# Altium integrated library Xilinx Aerospace and Defense.IntLib: 197 symbols (part 47 of 53)
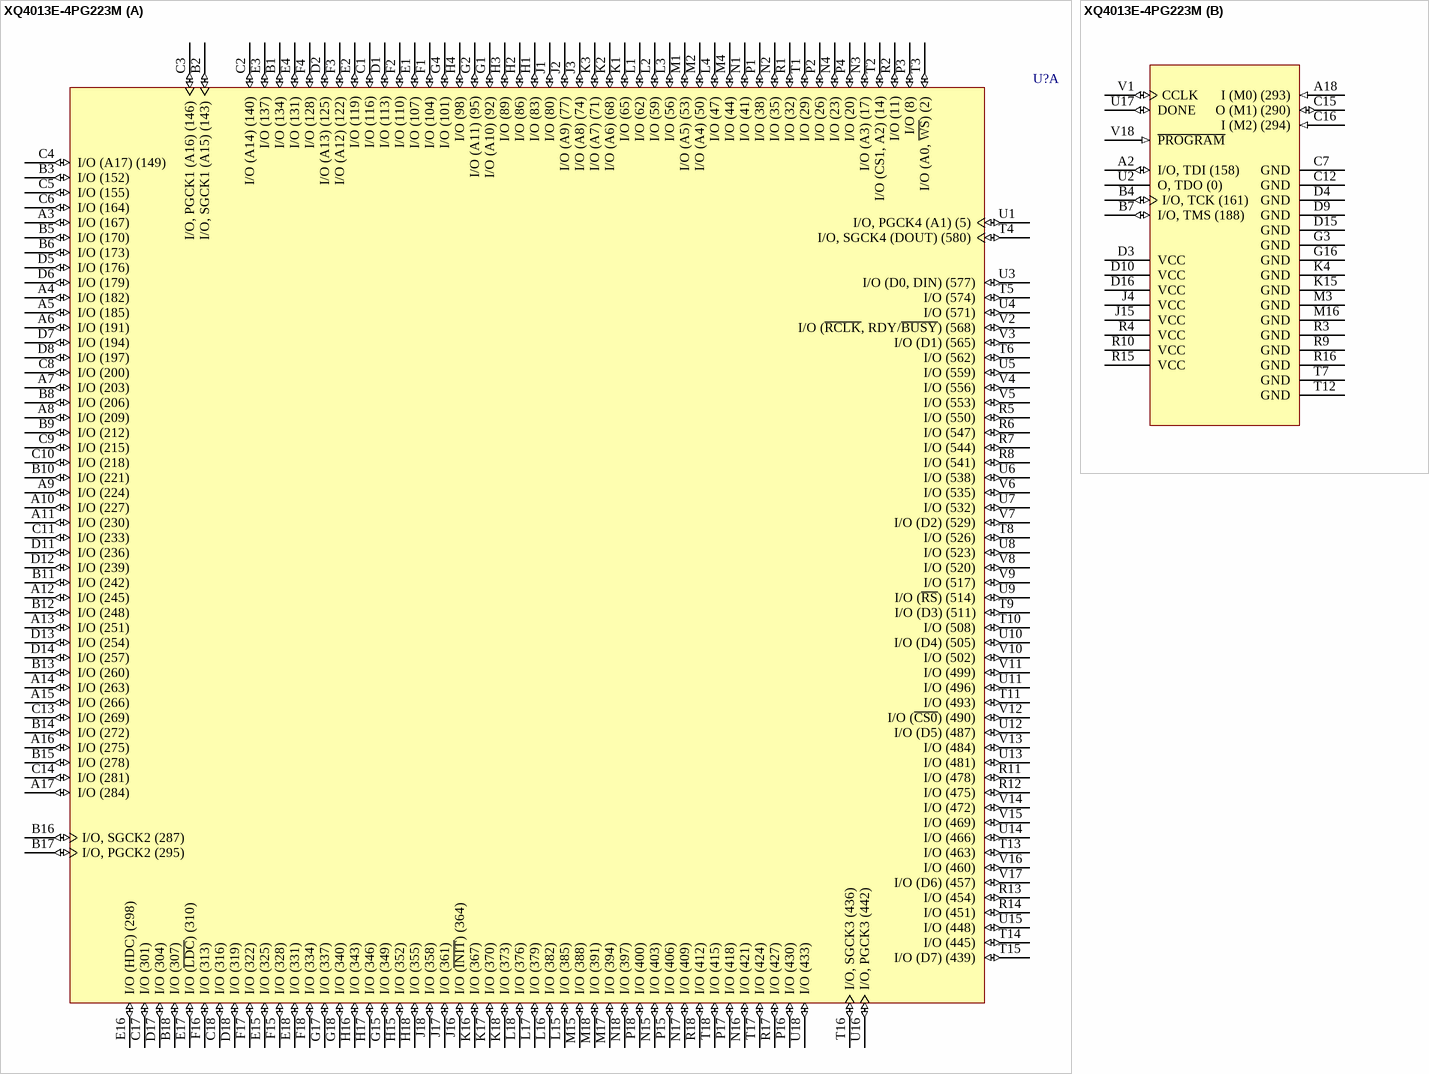
[diagram p453: symbol XQ4013E-4PG223M]

## XQ4013E-4PG223M
designator U?
QPro XQ4013E QML 5V High-Reliability FPGA, 223-Pin Ceramic PGA, Speed Grade 4, Military Ceramic Temperature Grade; DatasheetVersion: ver2.2, Jun-2000; PackageVersion: ver1.0, Jun-2000; PackageReference: PG223; PackageDescription: 223-Pin Ceramic Pin Grid Array (PG223); ComponentLink1Description: Manufacturer URL; ComponentLink1URL: http://www.xilinx.com/; ComponentLink2Description: QPRO XQ4000E/EX Datasheet; ComponentLink2URL: http://www.xilinx.com/support/documentation/data_sheets/ds021.pdf; ComponentLink3Description: PG223 Package Drawing; ComponentLink3URL: http://www.xilinx.com/support/documentation/package_specs/pg223.pdf
footprint PG223 (PGA, 223-Leads, Body 47x47mm, Pitch 2.54mm)
part A pins: A3 I/O (167) (io), A4 I/O (182) (io), A5 I/O (185) (io), A6 I/O (191) (io), A7 I/O (203) (io), A8 I/O (209) (io), A9 I/O (224) (io), A10 I/O (227) (io), A11 I/O (230) (io), A12 I/O (245) (io), A13 I/O (251) (io), A14 I/O (263) (io), A15 I/O (266) (io), A16 I/O (275) (io), A17 I/O (284) (io), B1 I/O (134) (io), B2 I/O, SGCK1 (A15) (143) (io), B3 I/O (152) (io), B5 I/O (170) (io), B6 I/O (173) (io), B8 I/O (206) (io), B9 I/O (212) (io), B10 I/O (221) (io), B11 I/O (242) (io), B12 I/O (248) (io), B13 I/O (260) (io), B14 I/O (272) (io), B15 I/O (278) (io), B16 I/O, SGCK2 (287) (io), B17 I/O, PGCK2 (295) (io), B18 I/O (307) (io), C1 I/O (116) (io), C2 I/O (A14) (140) (io), C3 I/O, PGCK1 (A16) (146) (io), C4 I/O (A17) (149) (io), C5 I/O (155) (io), C6 I/O (164) (io), C8 I/O (200) (io), C9 I/O (215) (io), C10 I/O (218) (io), C11 I/O (233) (io), C13 I/O (269) (io), C14 I/O (281) (io), C17 I/O (301) (io), C18 I/O (316) (io), D1 I/O (113) (io), D2 I/O (A13) (125) (io), D5 I/O (176) (io), D6 I/O (179) (io), D7 I/O (194) (io), D8 I/O (197) (io), D11 I/O (236) (io), D12 I/O (239) (io), D13 I/O (254) (io), D14 I/O (257) (io), D17 I/O (304) (io), D18 I/O (319) (io), E1 I/O (107) (io), E2 I/O (119) (io), E3 I/O (137) (io), E4 I/O (131) (io), E15 I/O (325) (io), E16 I/O (HDC) (298) (io), E17 I/O (~{LDC}) (310) (io), E18 I/O (331) (io), F1 I/O (104) (io), F2 I/O (110) (io), F3 I/O (A12) (122) (io), F4 I/O (128) (io), F15 I/O (328) (io), F16 I/O (313) (io), F17 I/O (322) (io), F18 I/O (334) (io), G1 I/O (A10) (92) (io), G2 I/O (A11) (95) (io), G4 I/O (101) (io), G15 I/O (349) (io), G17 I/O (337) (io), G18 I/O (340) (io), H1 I/O (83) (io), H2 I/O (86) (io), H3 I/O (89) (io), H4 I/O (98) (io), H15 I/O (352) (io), H16 I/O (343) (io), H17 I/O (346) (io), H18 I/O (355) (io), J1 I/O (80) (io), J2 I/O (A9) (77) (io), J3 I/O (A8) (74) (io), J16 I/O (~{INIT}) (364) (io), J17 I/O (361) (io), J18 I/O (358) (io), K1 I/O (65) (io), K2 I/O (A6) (68) (io), K3 I/O (A7) (71) (io), K16 I/O (367) (io), K17 I/O (370) (io), K18 I/O (373) (io), L1 I/O (62) (io), L2 I/O (59) (io), L3 I/O (56) (io), L4 I/O (47) (io), L15 I/O (385) (io), L16 I/O (382) (io), L17 I/O (379) (io), L18 I/O (376) (io), M1 I/O (A5) (53) (io), M2 I/O (A4) (50) (io), M4 I/O (44) (io), M15 I/O (388) (io), M17 I/O (394) (io), M18 I/O (391) (io), N1 I/O (41) (io), N2 I/O (35) (io), N3 I/O (A3) (17) (io), N4 I/O (23) (io), N15 I/O (403) (io), N16 I/O (421) (io), N17 I/O (409) (io), N18 I/O (397) (io), P1 I/O (38) (io), P2 I/O (26) (io), P3 I/O (8) (io), P4 I/O (20) (io), P15 I/O (406) (io), P16 I/O (430) (io), P17 I/O (418) (io), P18 I/O (400) (io), R1 I/O (32) (io), R2 I/O (11) (io), R5 I/O (550) (io), R6 I/O (547) (io), R7 I/O (544) (io), R8 I/O (541) (io), R11 I/O (478) (io), R12 I/O (475) (io), R13 I/O (454) (io), R14 I/O (451) (io), R17 I/O (427) (io), R18 I/O (412) (io), T1 I/O (29) (io), T2 I/O (CS1, A2) (14) (io), T3 I/O (A0, ~{WS}) (2) (io), T4 I/O, SGCK4 (DOUT) (580) (io), T5 I/O (574) (io), T6 I/O (562) (io), T8 I/O (526) (io), T9 I/O (D3) (511) (io), T10 I/O (508) (io), T11 I/O (493) (io), T13 I/O (463) (io), T14 I/O (445) (io), T15 I/O (D7) (439) (io), T16 I/O, SGCK3 (436) (io), T17 I/O (424) (io), T18 I/O (415) (io), U1 I/O, PGCK4 (A1) (5) (io), U3 I/O (D0, DIN) (577) (io), U4 I/O (571) (io), U5 I/O (559) (io), U6 I/O (538) (io), U7 I/O (532) (io), U8 I/O (523) (io), U9 I/O (~{RS}) (514) (io), U10 I/O (D4) (505) (io), U11 I/O (496) (io), U12 I/O (D5) (487) (io), U13 I/O (481) (io), U14 I/O (466) (io), U15 I/O (448) (io), U16 I/O, PGCK3 (442) (io), U18 I/O (433) (io), V2 I/O (~{RCLK}, RDY/~{BUSY}) (568) (io), V3 I/O (D1) (565) (io), V4 I/O (556) (io), V5 I/O (553) (io), V6 I/O (535) (io), V7 I/O (D2) (529) (io), V8 I/O (520) (io), V9 I/O (517) (io), V10 I/O (502) (io), V11 I/O (499) (io), V12 I/O (~{CS0}) (490) (io), V13 I/O (484) (io), V14 I/O (472) (io), V15 I/O (469) (io), V16 I/O (460) (io), V17 I/O (D6) (457) (io)
part B pins: A2 I/O, TDI (158) (io), A18 I (M0) (293) (in), B4 I/O, TCK (161) (io), B7 I/O, TMS (188) (io), C7 GND (power), C12 GND (power), C15 O (M1) (290) (io), C16 I (M2) (294) (in), D3 VCC (power), D4 GND (power), D9 GND (power), D10 VCC (power), D15 GND (power), D16 VCC (power), G3 GND (power), G16 GND (power), J4 VCC (power), J15 VCC (power), K4 GND (power), K15 GND (power), M3 GND (power), M16 GND (power), R3 GND (power), R4 VCC (power), R9 GND (power), R10 VCC (power), R15 VCC (power), R16 GND (power), T7 GND (power), T12 GND (power), U2 O, TDO (0) (hiz), U17 DONE (io), V1 CCLK (io), V18 ~{PROGRAM} (in)

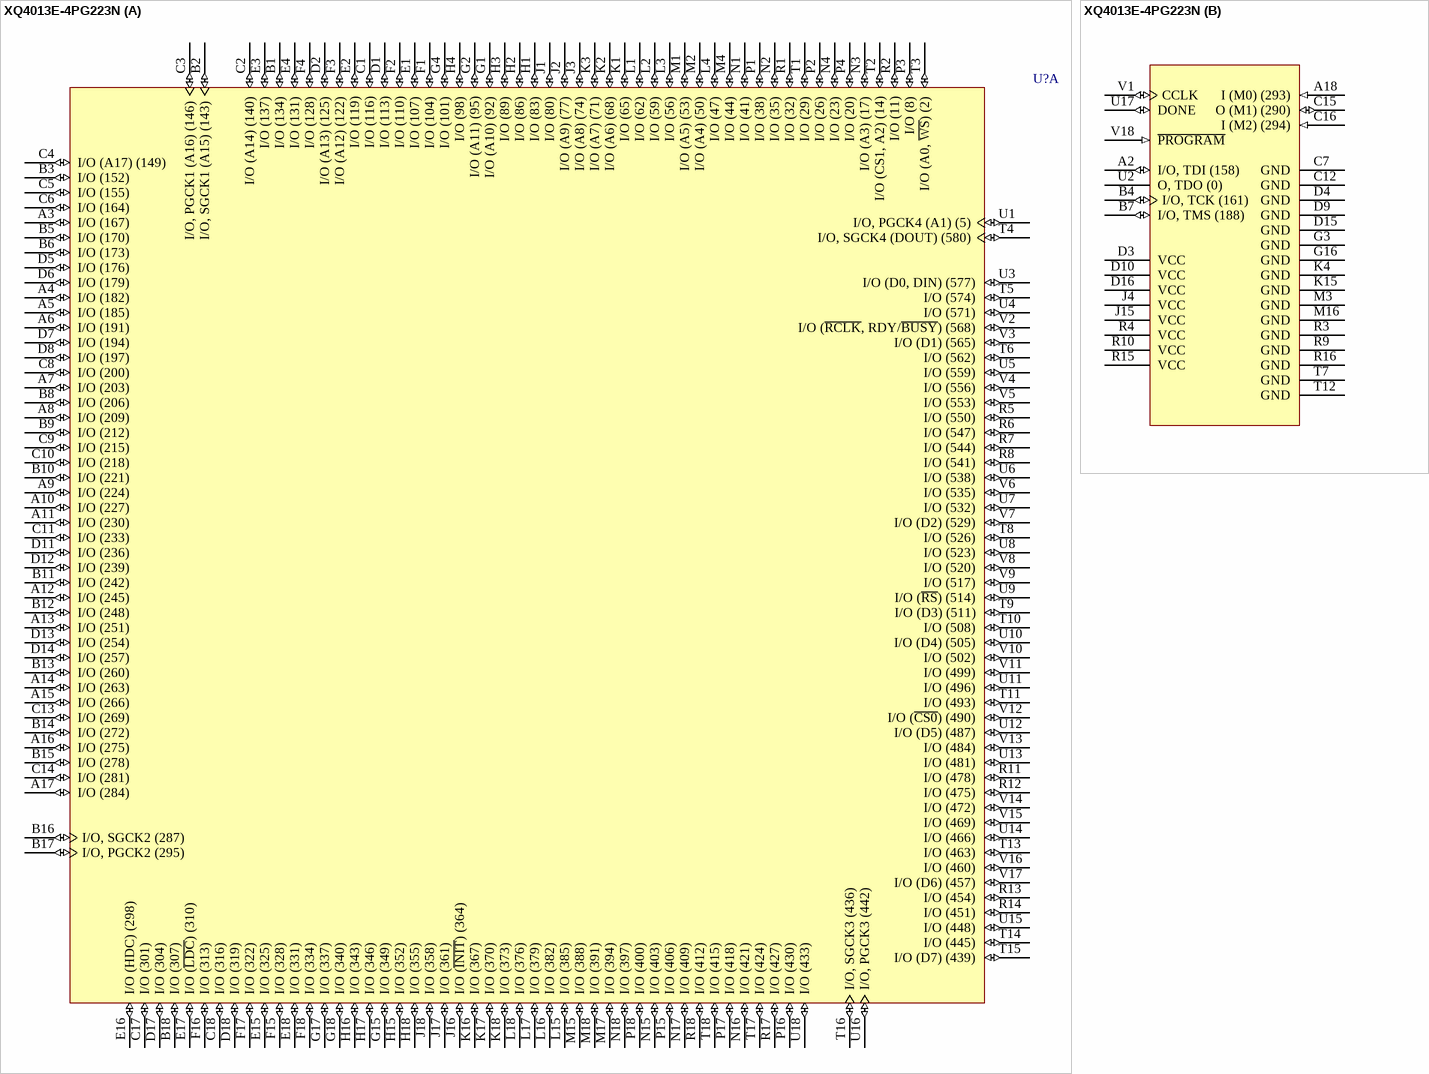
[diagram p178: symbol XQ4013E-4PG223N]